# EAGLE library part GHI-IC_TPS2051B (library BeagleBone_Black_Wireless)
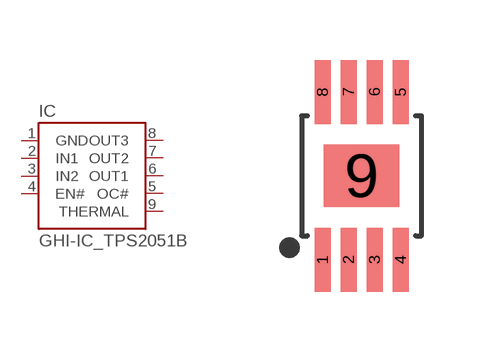
[diagram p9: symbol with the pads of GHI-IC_MSOP-POWER.PAD-8(TI); footprint GHI-IC_MSOP-POWER.PAD-8(TI)]

Designator prefix IC

## GHI-IC_TPS2051B  [GHI-IC_MSOP-POWER.PAD-8(TI)]
1  GND
2  IN1
3  IN2
4  EN#
5  OC#
6  OUT1
7  OUT2
8  OUT3
9  THERMAL

## Footprint GHI-IC_MSOP-POWER.PAD-8(TI) (pad centres in mm)
smd 0.4 x 1.6: 1 -0.975,-2.1; 2 -0.325,-2.1; 3 0.325,-2.1; 4 0.975,-2.1; 5 0.975,2.1; 6 0.325,2.1; 7 -0.325,2.1; 8 -0.975,2.1
smd 1.89 x 1.57: 9 0,0